# Altium footprint library Разъемы импортные.PcbLib: 127 footprints (part 4 of 8)
Each footprint in its own frame and in the unit in brackets; x right, y up, seen from the top. Pads: shape width x height; smd on the part's side, far side on the other; paste and mask are expansions set on the pad; w line width, h text height; cw(c..) or ccw(c..) is an arc to the next point about the centre after c.
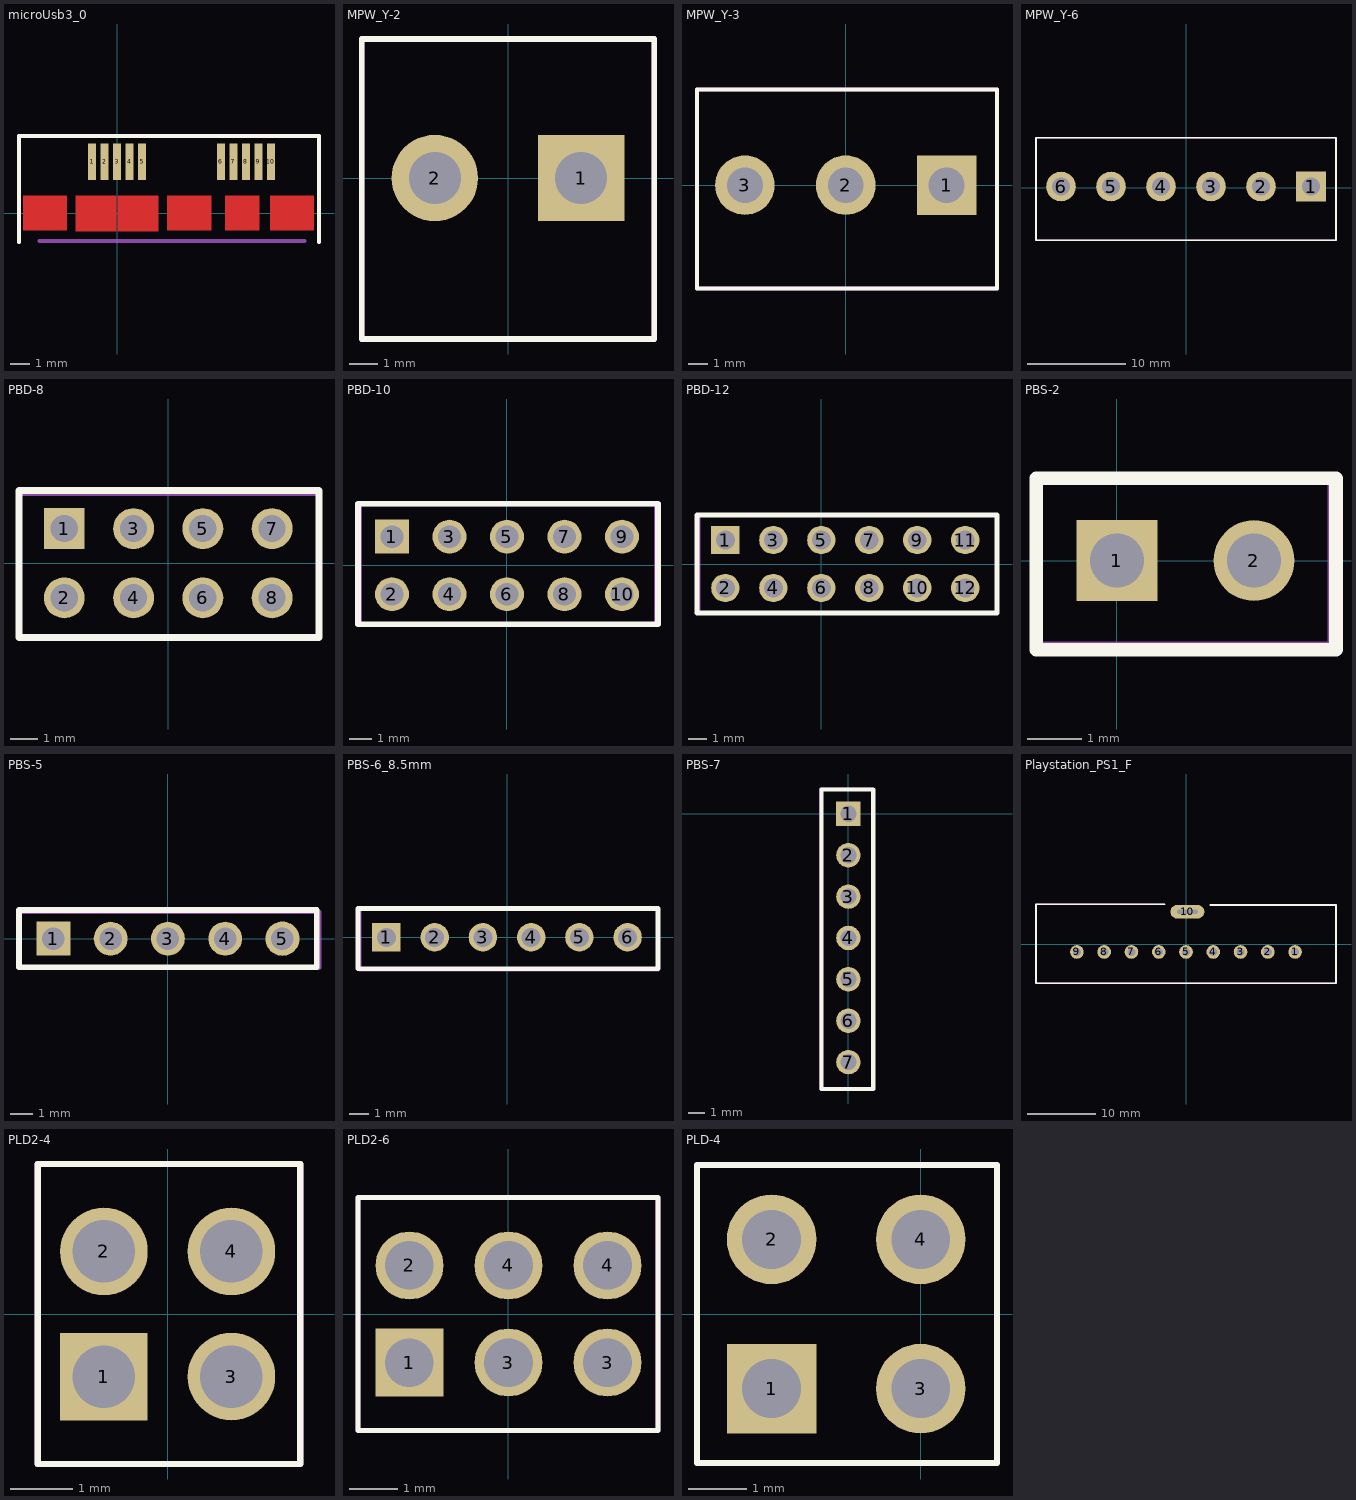
[diagram p3: the footprints below, top view; thin cyan lines are the x and y axes]

## MicroSD LQTF-ML10B-01 [mm]

## microUsb3_0 [mm]
pads (10):
  rect 0.4x1.9 smd: 1(-1.3,2.675) 2(-0.65,2.675) 3(0,2.675) 4(0.65,2.675) 5(1.3,2.675) 6(5.4,2.675) 7(6.05,2.675) 8(6.7,2.675) 9(7.35,2.675) 10(8,2.675)
Top Layer:
  rectangle: -2.15,-0.95 -0.025,0.92
  rectangle: -4.9,-0.92 -2.6,0.92
  region: 4.9,0.92 2.6,0.92 2.6,-0.92 4.9,-0.92
  region: 2.15,0.92 0.025,0.92 0.025,-0.95 2.15,-0.95
  region: 7.4,0.92 5.6,0.92 5.6,-0.92 7.4,-0.92
  region: 10.25,0.92 7.95,0.92 7.95,-0.92 10.25,-0.92
Top Overlay:
  lines w0.2: -5.1,-1.5 -5.1,4 10.5,4 10.5,-1.5
TopAssy:
  lines w0.2: -5.1,-1.5 -5.1,4 10.5,4 10.5,-1.5 ; -4.025,-1.45 9.75,-1.45
  text ".Designator" at -0.5,1.6 h1.52
3D body "microUSB3_0.stp": height 2.88, standoff -0.07, extent -3.995,-2.154 9.747,3.448

## MPW_Y-2 [mm]
pads (2):
  rect 3x3 hole 1.8: 1(2.54,0)
  round 3 hole 1.8: 2(-2.54,0)
Top Overlay:
  lines w0.2: -5.08,-5.588 -5.08,4.826 5.08,4.826 5.08,-5.588 -5.08,-5.588
TopAssy:
  lines w0.2: -5.08,-5.588 -5.08,4.826 5.08,4.826 5.08,-5.588 -5.08,-5.588
  text ".Designator" at -1.016,-0.889 h1.52
3D body "MPW-2.step": height 14.17, standoff -3.23, extent -5.08,-5.588 5.08,4.867

## MPW_Y-3 [mm]
pads (3):
  rect 3x3 hole 1.8: 1(5.08,0)
  round 3 hole 1.8: 2(0,0) 3(-5.08,0)
Top Overlay:
  lines w0.2: -7.493,-5.207 7.62,-5.207 7.62,4.826 -7.493,4.826 -7.493,-5.207
TopAssy:
  lines w0.2: -7.493,-5.207 7.62,-5.207 7.62,4.826 -7.493,4.826 -7.493,-5.207
  text ".Designator" at -1.016,-0.889 h1.52
3D body "MPW-3.step": height 13.8, standoff -3.6, extent -7.5,-5.2 7.5,4.707

## MPW_Y-6 [mm]
pads (6):
  rect 3x3 hole 1.8: 1(12.7,0.127)
  round 3 hole 1.8: 2(7.62,0.127) 3(2.54,0.127) 4(-2.54,0.127) 5(-7.62,0.127) 6(-12.7,0.127)
Top Overlay:
  lines w0.2: -15.24,-5.334 -15.24,5.08 15.24,5.08 15.24,-5.334 -15.24,-5.334
TopAssy:
  lines w0.2: -15.24,-5.334 -15.24,5.08 15.24,5.08 15.24,-5.334 -15.24,-5.334
  text ".Designator" at -1.016,0.127 h1.52
3D body "MPW-6.stp": height 14.17, standoff -3.23, extent -15.24,-5.375 15.24,5.08

## PBD-8 [mm]
pads (8):
  rect 1.5x1.5 hole 1: 1(-3.81,1.27)
  round 1.5 hole 1: 2(-3.81,-1.27) 3(-1.27,1.27) 4(-1.27,-1.27) 5(1.27,1.27) 6(1.27,-1.27) 7(3.81,1.27) 8(3.81,-1.27)
Top Overlay:
  lines w0.254: -5.47,-2.73 -5.47,2.67 5.53,2.67 5.53,-2.73 -5.47,-2.73
TopAssy:
  lines w0.2: -5.47,-2.73 5.53,-2.73 5.53,2.57 -5.47,2.57 -5.47,-2.73
  text ".Designator" at -2.54,-1.778 h3
3D body "PBD_8.step": height 8.5, standoff -3, extent -5.33,-2.54 5.33,2.46

## PBD-10 [mm]
pads (10):
  rect 1.5x1.5 hole 1: 1(-5.08,1.27)
  round 1.5 hole 1: 2(-5.08,-1.27) 3(-2.54,1.27) 4(-2.54,-1.27) 5(0,1.27) 6(0,-1.27) 7(2.54,1.27) 8(2.54,-1.27) 9(5.08,1.27) 10(5.08,-1.27)
Top Overlay:
  lines w0.254: -6.58,-2.6 6.67,-2.6 6.67,2.73 -6.58,2.73 -6.58,-2.6
TopAssy:
  lines w0.2: -6.5,-2.6 -6.5,2.7 6.6,2.7 6.6,-2.6 -6.5,-2.6
  text ".Designator" at -5.7,-0.8 h3
3D body "PBD-10.step": height 8.5, standoff -3, extent -6.6,-2.46 6.6,2.54

## PBD-12 [mm]
pads (12):
  rect 1.5x1.5 hole 1: 1(-5.08,1.27)
  round 1.5 hole 1: 2(-5.08,-1.27) 3(-2.54,1.27) 4(-2.54,-1.27) 5(0,1.27) 6(0,-1.27) 7(2.54,1.27) 8(2.54,-1.27) 9(5.08,1.27) 10(5.08,-1.27) 11(7.62,1.27) 12(7.62,-1.27)
Top Overlay:
  lines w0.254: -6.58,-2.6 -6.58,2.6 9.3,2.6 9.3,-2.6 -6.58,-2.6
TopAssy:
  lines w0.2: -6.5,-2.6 9.3,-2.6 9.3,2.6 -6.5,2.6 -6.5,-2.6
  text ".Designator" at -5.7,-0.8 h3
3D body "PBD-12.step": height 8.5, standoff -3, extent -6.6,-2.54 9.14,2.46

## PBS-2 [mm]
pads (2):
  rect 1.5x1.5 hole 1: 1(0,0)
  round 1.5 hole 1: 2(2.54,0)
Top Overlay:
  lines w0.254: -1.497,-1.65 -1.497,1.524 4.06,1.524 4.06,-1.65 -1.497,-1.65
TopAssy:
  lines w0.2: -1.5,-1.6 -1.5,1.5 4,1.5 4,-1.6 -1.5,-1.6
  text ".Designator" at -0.7,0.5 h3
3D body "PBS_2.step": height 8.5, standoff -3, extent -1.52,-1.25 4.06,1.25

## PBS-5 [mm]
pads (5):
  rect 1.5x1.5 hole 1: 1(-5.08,0)
  round 1.5 hole 1: 2(-2.54,0) 3(0,0) 4(2.54,0)
  round 1.524 hole 1: 5(5.08,0)
Top Overlay:
  lines w0.254: -6.604,-1.27 -6.604,1.27 6.604,1.27 6.604,-1.27 -6.604,-1.27
TopAssy:
  lines w0.2: -6.6,-1.3 6.7,-1.3 6.7,1.2 -6.6,1.2 -6.6,-1.3
  text ".Designator" at -6.4,-0.9 h3
3D body "PBS_5.step": height 8.5, standoff -3, extent -6.6,-1.25 6.6,1.25

## PBS-6_8.5mm [mm]
pads (6):
  rect 1.5x1.5 hole 1: 1(-6.35,0)
  round 1.5 hole 1: 2(-3.81,0) 3(-1.27,0) 4(1.27,0) 5(3.81,0) 6(6.35,0)
Top Overlay:
  lines w0.254: -7.847,-1.65 -7.847,1.524 7.95,1.524 7.95,-1.65 -7.847,-1.65
TopAssy:
  lines w0.2: -7.75,-1.7 7.95,-1.7 7.95,1.5 -7.75,1.5 -7.75,-1.7
  text ".Designator" at -7.15,-0.7 h3
3D body "PBS_(DS1023)_6pin_8.5mm.step": height 8.5, standoff -3, extent -7.87,-1.25 7.87,1.25

## PBS-7 [mm]
pads (7):
  rect 1.5x1.5 hole 1: 1(0,0)
  round 1.5 hole 1: 2(0,-2.54) 3(0,-5.08) 4(0,-7.62) 5(0,-10.16) 6(0,-12.7) 7(0,-15.24)
Top Overlay:
  lines w0.254: -1.65,-16.891 -1.65,1.497 1.524,1.497 1.524,-16.891 -1.65,-16.891
TopAssy:
  lines w0.2: -1.7,-16.891 1.5,-16.891 1.5,1.524 -1.7,1.524 -1.7,-16.891
  text ".Designator" at -0.7,-2.6 h3
3D body "PBS-7.step": height 8.5, standoff -3, extent -1.25,-16.76 1.25,1.52

## Playstation_PS1_F [mm]
pads (10):
  round 2 hole 1.2: 1(16,-1.1) 2(12,-1.1) 3(8,-1.1) 4(4,-1.1) 5(0,-1.1) 6(-4,-1.1) 7(-8,-1.1) 8(-12,-1.1) 9(-16,-1.1)
  oval 5x2 hole 0.6 slot 3 at 0 deg: 10(0.2,4.8)
Top Overlay:
  lines w0.254: -3.1,5.9 -22,5.9 -22,-5.7 22,-5.7 22,5.8 17.2,5.8 8.4,5.8 3.6,5.8
TopAssy:
  lines w0.254: -3.1,5.9 -22,5.9 -22,-5.7 22,-5.7 22,5.8 3.6,5.8
  text ".Designator" at -4.65,-1.3 h3
3D body "PlayStation_PS1_F.stp": height 18.8, standoff -3, extent -22,-5.65 22,5.45

## PLD2-4 [mm]
pads (4):
  rect 1.4x1.4 hole 1: 1(-1.02,-1)
  round 1.4 hole 1: 2(-1.02,1) 3(1.02,-1) 4(1.02,1)
Top Overlay:
  lines w0.1: -2.08,-2.4 2.12,-2.4 2.12,2.4 -2.08,2.4 -2.08,-2.4
TopAssy:
  lines w0.1: -2.08,-2.4 -2.08,2.4 2.12,2.4 2.12,-2.4 -2.08,-2.4
  text ".Designator" at -1.52,-1.778 h3
3D body "PLD2-2.step": height 5.5, standoff -2.5, extent -1.98,-2.3 0.02,2.3
3D body "PLD2-2.step": height 5.5, standoff -2.5, extent 0.02,-2.3 2.02,2.3

## PLD2-6 [mm]
pads (6):
  rect 1.4x1.4 hole 1: 1(-2.04,-1)
  round 1.4 hole 1: 2(-2.04,1) 3(0,-1) 3(2.04,-1) 4(0,1) 4(2.04,1)
Top Overlay:
  lines w0.1: -3.1,-2.4 3.08,-2.4 3.08,2.4 -3.1,2.4 -3.1,-2.4
TopAssy:
  lines w0.1: -3.1,-2.4 -3.1,2.4 3.08,2.4 3.08,-2.4 -3.1,-2.4
  text ".Designator" at -2.54,-1.778 h3
3D body "PLD2-2.step": height 5.5, standoff -2.5, extent 1,-2.3 3,2.3
3D body "PLD2-2.step": height 5.5, standoff -2.5, extent -3,-2.3 -1,2.3
3D body "PLD2-2.step": height 5.5, standoff -2.5, extent -1,-2.3 1,2.3

## PLD-4 [mil]
pads (4):
  rect 60x60 hole 39.37: 1(-100,-50)
  round 60 hole 39.37: 2(-100,50) 3(0,-50) 4(0,50)
Top Overlay:
  lines w3.94: -150,-100 -150,100 51.18,100 51.18,-100 -150,-100
TopAssy:
  lines w3.94: -150,-100 51.18,-100 51.18,100 -150,100 -150,-100
  text ".Designator" at -100,-70 h118.11
3D body "PLD-2.step": height 336.22, standoff -116.54, extent -50,-99.99 50,100.01
3D body "PLD-2.step": height 336.22, standoff -116.54, extent -150,-99.99 -50,100.01